# EAGLE library part USB4110-GF-A (library USB4110-GF-A)
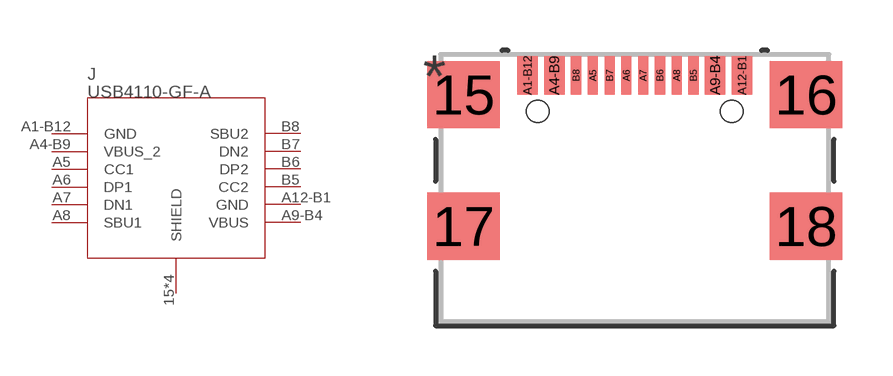
[diagram p0: symbol with the pads of USB4110-GF-A_GCT; footprint USB4110-GF-A_GCT]

Designator prefix J

## USB4110-GF-A (COPYRIGHT: Copyright (C) 2021 Ultra Librarian. All rights reserved.; DIGI-KEY_PART_NUMBER_1: 2073-USB4110-GF-A-1-ND; DIGI-KEY_PART_NUMBER_2: 2073-USB4110-GF-A-2-ND; DIGI-KEY_PART_NUMBER_3: 2073-USB4110-GF-A-6-ND; MANUFACTURER_PART_NUMBER: USB4110-GF-A; MFR_NAME: Global Connector Technology)  [USB4110-GF-A_GCT]
15  SHIELD  pas
16  SHIELD  pas
17  SHIELD  pas
18  SHIELD  pas
A1-B12  GND  pas
A4-B9  VBUS_2  pwr
A5  CC1
A6  DP1
A7  DN1
A8  SBU1
A9-B4  VBUS  pwr
A12-B1  GND  pas
B5  CC2
B6  DP2
B7  DN2
B8  SBU2

## Footprint USB4110-GF-A_GCT (pad centres in mm)
smd 2.159 x 2.007: 15 -5.11,2.788; 16 5.11,2.788; 17 -5.11,-1.142; 18 5.11,-1.142
smd 0.61 x 1.143: A1-B12 -3.2,3.363; A4-B9 -2.4,3.363; A9-B4 2.4,3.363; A12-B1 3.2,3.363
smd 0.305 x 1.143: A5 -1.25,3.363; A6 -0.25,3.363; A7 0.25,3.363; A8 1.25,3.363; B5 1.75,3.363; B6 0.75,3.363; B7 -0.75,3.363; B8 -1.75,3.363
hole 0.66 at -2.896,2.286
hole 0.66 at 2.896,2.286